# Altium integrated library Amplifiers.IntLib: 4 symbols
Pins are listed as number, name and electrical type; pins without a type are passive.

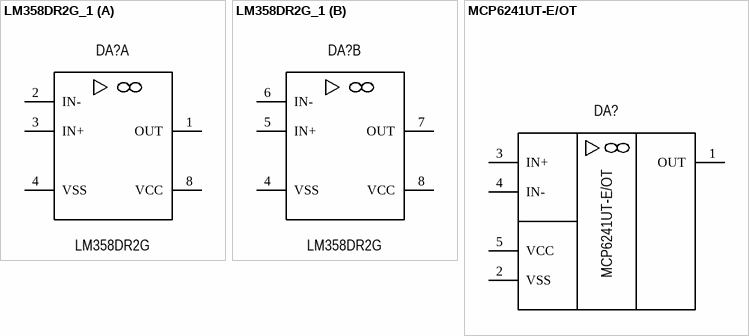
[diagram p0: symbols LM358DR2G_1 to MCP6241UT-E/OT]

## LM358DR2G_1
designator DA?, comment LM358DR2G
Operational Amplifier 2Chanel; Manufacturer: ON Semiconductor; Package: SOIC-8; Group: Operational Amplifier; Part name: LM358DR2G
footprint SOIC-8
pins on every part: 4 VSS, 8 VCC
part A pins: 1 OUT, 2 IN-, 3 IN+
part B pins: 5 IN+, 6 IN-, 7 OUT

## MCP6241UT-E/OT
designator DA?
Operational Amplifier 1Chanel; Manufacturer: Microchip Technology; Package: SOT-23-5; Group: Operational Amplifier; Part name: MCP6241UT-E/OT
footprint SOT-23-5N
footprint SOT-23-5L
pins: 1 OUT, 2 VSS, 3 IN+, 4 IN-, 5 VCC


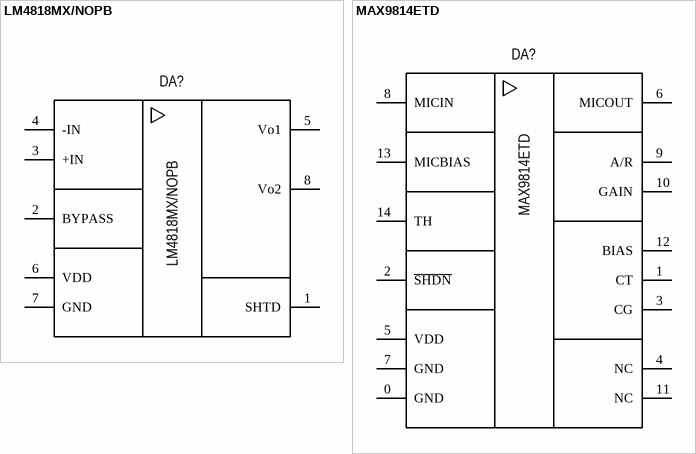
[diagram p1: symbols LM4818MX/NOPB to MAX9814ETD]

## LM4818MX/NOPB
designator DA?
Speaker Amplifier with Shutdown  Mode; Manufacturer: Texas Instruments; Component: Audio Amplifier; Group: Signal; Voltage supply: 2.0V - 5.5V; Power: 350mW; Class: AB; Output: 1-CHanel (Mono); Package: SOIC-8; Part name: LM4818MX/NOPB; Operating temperature: -40°C +85°C; Mounting type: Surface mount; Dimension: 5.00mm x 6.00mm; Height: 3.90mm
footprint SOIC-8N
pins: 1 SHTD "Analog-to-digital converter input 2", 2 BYPASS "Analog-to-digital converter input 1", 3 +IN "I2C serial clock (SCL)  / SPI serial port clock (SPC)", 4 -IN "Power supply", 5 Vo1 "0 V supply", 6 VDD "0 V supply", 7 GND "0 V supply", 8 Vo2 "0 V supply"

## MAX9814ETD
designator DA?
Microphone Amplifier with AGC and Low-Noise Microphone Bias; Manufacturer: Maxim Integrated; Component: Audio Amplifier; Group: Signal; Voltage supply: 2.7V - 5.5V; Power: 1480mW; Class: AB; Output: 1-CHanel (Mono); Package: WFDFN-14; Part name: MAX9814ETD; Operating temperature: -40°C +85°C; Mounting type: Surface mount; Dimension: 5.00mm x 6.00mm; Height: 0.80mm
footprint WFDFN-14N
pins: 0 GND "0 V supply", 1 CT "Connect to GND", 2 ~{SHDN} "Power supply", 3 CG "Power supply for I/O pins", 4 NC "0 V supply", 5 VDD "0 V supply", 6 MICOUT "SPI enable  I  2C/SPI mode selection (1: SPI idle mode / I2C communication  enabled; 0: SPI communication mode / I2C disabled)", 7 GND "0 V supply", 8 MICIN "Analog-to-digital converter input 2", 9 A/R "SPI serial data output (SDO)  /  I2C least significant bit of the device address (SA0)", 10 GAIN "I2C serial data (SDA)  / SPI serial data input (SDI)  / 3-wire interface serial data output (SDO", 11 NC "0 V supply", 12 BIAS "Analog-to-digital converter input 3", 13 MICBIAS "Analog-to-digital converter input 1", 14 TH "I2C serial clock (SCL)  / SPI serial port clock (SPC)"